# EAGLE library part EPF10K40-P240 (library altera)
EPF10K40 FLEX 10K family
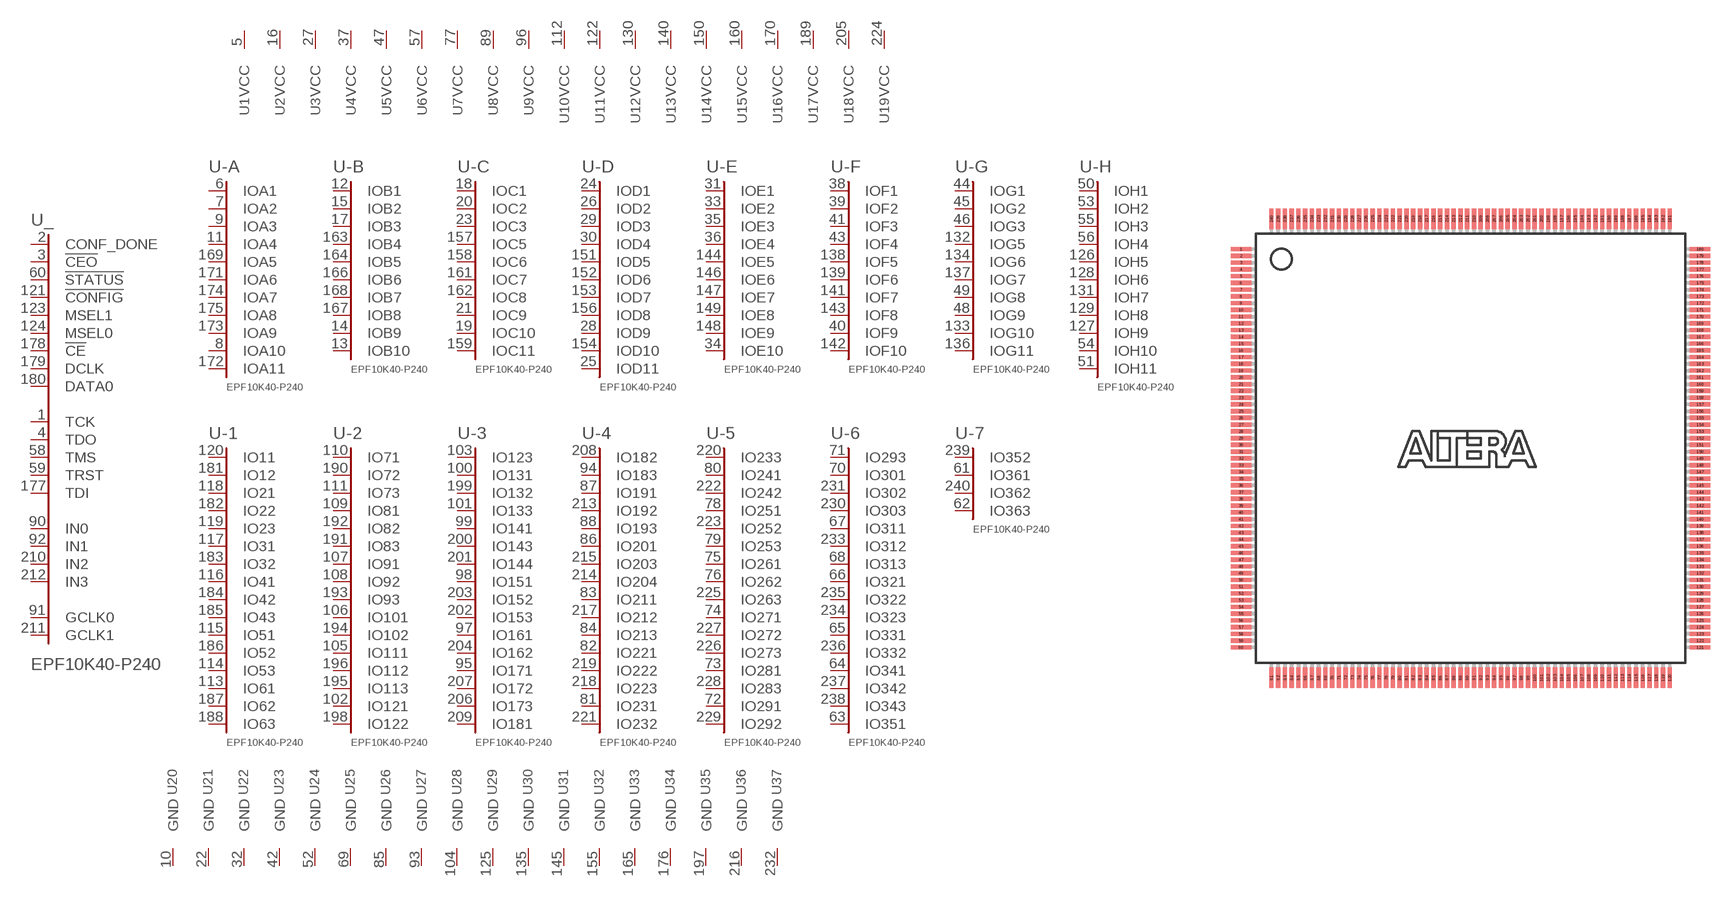
[diagram p44: symbol with the pads of PQFP240; footprint PQFP240]

Designator prefix U; gates _=100R240C -A=A11 -B=B10 -C=C11_4 -D=D11 -E=E10 -F=F10 -G=G11 -H=H11 -1=63-40 -2=122-40 -3=181-40 -4=232-40 -5=292-40 -6=351-40 -7=363-40 1=VCCINT 2=VCCINT 3=VCCINT 4=VCCINT 5=VCCINT 6=VCCINT 7=VCCINT 8=VCCINT 9=VCCINT 10=VCCINT 11=VCCINT 12=VCCINT 13=VCCINT 14=VCCINT 15=VCCINT 16=VCCINT 17=VCCINT 18=VCCINT 19=VCCINT 20=GNDINT 21=GNDINT 22=GNDINT 23=GNDINT 24=GNDINT 25=GNDINT 26=GNDINT 27=GNDINT 28=GNDINT 29=GNDINT 30=GNDINT 31=GNDINT 32=GNDINT 33=GNDINT 34=GNDINT 35=GNDINT 36=GNDINT 37=GNDINT

## EPF10K40-P240  [PQFP240]
1  _:TCK
2  _:CONF_DONE  in
3  _:!CEO!  in
4  _:TDO
5  1:VCC  pwr
6  -A:IOA1
7  -A:IOA2
8  -A:IOA10
9  -A:IOA3
10  20:GND  pwr
11  -A:IOA4
12  -B:IOB1
13  -B:IOB10
14  -B:IOB9
15  -B:IOB2
16  2:VCC  pwr
17  -B:IOB3
18  -C:IOC1
19  -C:IOC10
20  -C:IOC2
21  -C:IOC9
22  21:GND  pwr
23  -C:IOC3
24  -D:IOD1
25  -D:IOD11
26  -D:IOD2
27  3:VCC  pwr
28  -D:IOD9
29  -D:IOD3
30  -D:IOD4
31  -E:IOE1
32  22:GND  pwr
33  -E:IOE2
34  -E:IOE10
35  -E:IOE3
36  -E:IOE4
37  4:VCC  pwr
38  -F:IOF1
39  -F:IOF2
40  -F:IOF9
41  -F:IOF3
42  23:GND  pwr
43  -F:IOF4
44  -G:IOG1
45  -G:IOG2
46  -G:IOG3
47  5:VCC  pwr
48  -G:IOG9
49  -G:IOG8
50  -H:IOH1
51  -H:IOH11
52  24:GND  pwr
53  -H:IOH2
54  -H:IOH10
55  -H:IOH3
56  -H:IOH4
57  6:VCC  pwr
58  _:TMS
59  _:TRST
60  _:!STATUS!  in
61  -7:IO361
62  -7:IO363
63  -6:IO351
64  -6:IO341
65  -6:IO331
66  -6:IO321
67  -6:IO311
68  -6:IO313
69  25:GND  pwr
70  -6:IO301
71  -6:IO293
72  -5:IO291
73  -5:IO281
74  -5:IO271
75  -5:IO261
76  -5:IO262
77  7:VCC  pwr
78  -5:IO251
79  -5:IO253
80  -5:IO241
81  -4:IO231
82  -4:IO221
83  -4:IO211
84  -4:IO213
85  26:GND  pwr
86  -4:IO201
87  -4:IO191
88  -4:IO193
89  8:VCC  pwr
90  _:IN0  in
91  _:GCLK0  in
92  _:IN1  in
93  27:GND  pwr
94  -4:IO183
95  -3:IO171
96  9:VCC  pwr
97  -3:IO161
98  -3:IO151
99  -3:IO141
100  -3:IO131
101  -3:IO133
102  -2:IO121
103  -3:IO123
104  28:GND  pwr
105  -2:IO111
106  -2:IO101
107  -2:IO91
108  -2:IO92
109  -2:IO81
110  -2:IO71
111  -2:IO73
112  10:VCC  pwr
113  -1:IO61
114  -1:IO53
115  -1:IO51
116  -1:IO41
117  -1:IO31
118  -1:IO21
119  -1:IO23
120  -1:IO11
121  _:!CONFIG!  in
122  11:VCC  pwr
123  _:MSEL1  in
124  _:MSEL0  in
125  29:GND  pwr
126  -H:IOH5
127  -H:IOH9
128  -H:IOH6
129  -H:IOH8
130  12:VCC  pwr
131  -H:IOH7
132  -G:IOG5
133  -G:IOG10
134  -G:IOG6
135  30:GND  pwr
136  -G:IOG11
137  -G:IOG7
138  -F:IOF5
139  -F:IOF6
140  13:VCC  pwr
141  -F:IOF7
142  -F:IOF10
143  -F:IOF8
144  -E:IOE5
145  31:GND  pwr
146  -E:IOE6
147  -E:IOE7
148  -E:IOE9
149  -E:IOE8
150  14:VCC  pwr
151  -D:IOD5
152  -D:IOD6
153  -D:IOD7
154  -D:IOD10
155  32:GND  pwr
156  -D:IOD8
157  -C:IOC5
158  -C:IOC6
159  -C:IOC11
160  15:VCC  pwr
161  -C:IOC7
162  -C:IOC8
163  -B:IOB4
164  -B:IOB5
165  33:GND  pwr
166  -B:IOB6
167  -B:IOB8
168  -B:IOB7
169  -A:IOA5
170  16:VCC  pwr
171  -A:IOA6
172  -A:IOA11
173  -A:IOA9
174  -A:IOA7
175  -A:IOA8
176  34:GND  pwr
177  _:TDI
178  _:!CE!  in
179  _:DCLK  in
180  _:DATA0  in
181  -1:IO12
182  -1:IO22
183  -1:IO32
184  -1:IO42
185  -1:IO43
186  -1:IO52
187  -1:IO62
188  -1:IO63
189  17:VCC  pwr
190  -2:IO72
191  -2:IO83
192  -2:IO82
193  -2:IO93
194  -2:IO102
195  -2:IO113
196  -2:IO112
197  35:GND  pwr
198  -2:IO122
199  -3:IO132
200  -3:IO143
201  -3:IO144
202  -3:IO153
203  -3:IO152
204  -3:IO162
205  18:VCC  pwr
206  -3:IO173
207  -3:IO172
208  -4:IO182
209  -3:IO181
210  _:IN2  in
211  _:GCLK1  in
212  _:IN3  in
213  -4:IO192
214  -4:IO204
215  -4:IO203
216  36:GND  pwr
217  -4:IO212
218  -4:IO223
219  -4:IO222
220  -5:IO233
221  -4:IO232
222  -5:IO242
223  -5:IO252
224  19:VCC  pwr
225  -5:IO263
226  -5:IO273
227  -5:IO272
228  -5:IO283
229  -5:IO292
230  -6:IO303
231  -6:IO302
232  37:GND  pwr
233  -6:IO312
234  -6:IO323
235  -6:IO322
236  -6:IO332
237  -6:IO342
238  -6:IO343
239  -7:IO352
240  -7:IO362

## Footprint PQFP240 (pad centres in mm)
Plastic Quad Flat Pack
smd 1.5 x 0.32: 1 -17,14.75; 2 -17,14.25; 3 -17,13.75; 4 -17,13.25; 5 -17,12.75; 6 -17,12.25; 7 -17,11.75; 8 -17,11.25; 9 -17,10.75; 10 -17,10.25; 11 -17,9.75; 12 -17,9.25; 13 -17,8.75; 14 -17,8.25; 15 -17,7.75; 16 -17,7.25; 17 -17,6.75; 18 -17,6.25; 19 -17,5.75; 20 -17,5.25; 21 -17,4.75; 22 -17,4.25; 23 -17,3.75; 24 -17,3.25; 25 -17,2.75; 26 -17,2.25; 27 -17,1.75; 28 -17,1.25; 29 -17,0.75; 30 -17,0.25; 31 -17,-0.25; 32 -17,-0.75; 33 -17,-1.25; 34 -17,-1.75; 35 -17,-2.25; 36 -17,-2.75; 37 -17,-3.25; 38 -17,-3.75; 39 -17,-4.25; 40 -17,-4.75; 41 -17,-5.25; 42 -17,-5.75; 43 -17,-6.25; 44 -17,-6.75; 45 -17,-7.25; 46 -17,-7.75; 47 -17,-8.25; 48 -17,-8.75; 49 -17,-9.25; 50 -17,-9.75; 51 -17,-10.25; 52 -17,-10.75; 53 -17,-11.25; 54 -17,-11.75; 55 -17,-12.25; 56 -17,-12.75; 57 -17,-13.25; 58 -17,-13.75; 59 -17,-14.25; 60 -17,-14.75; 121 17,-14.75; 122 17,-14.25; 123 17,-13.75; 124 17,-13.25; 125 17,-12.75; 126 17,-12.25; 127 17,-11.75; 128 17,-11.25; 129 17,-10.75; 130 17,-10.25; 131 17,-9.75; 132 17,-9.25; 133 17,-8.75; 134 17,-8.25; 135 17,-7.75; 136 17,-7.25; 137 17,-6.75; 138 17,-6.25; 139 17,-5.75; 140 17,-5.25; 141 17,-4.75; 142 17,-4.25; 143 17,-3.75; 144 17,-3.25; 145 17,-2.75; 146 17,-2.25; 147 17,-1.75; 148 17,-1.25; 149 17,-0.75; 150 17,-0.25; 151 17,0.25; 152 17,0.75; 153 17,1.25; 154 17,1.75; 155 17,2.25; 156 17,2.75; 157 17,3.25; 158 17,3.75; 159 17,4.25; 160 17,4.75; 161 17,5.25; 162 17,5.75; 163 17,6.25; 164 17,6.75; 165 17,7.25; 166 17,7.75; 167 17,8.25; 168 17,8.75; 169 17,9.25; 170 17,9.75; 171 17,10.25; 172 17,10.75; 173 17,11.25; 174 17,11.75; 175 17,12.25; 176 17,12.75; 177 17,13.25; 178 17,13.75; 179 17,14.25; 180 17,14.75
smd 0.32 x 1.5: 61 -14.75,-17; 62 -14.25,-17; 63 -13.75,-17; 64 -13.25,-17; 65 -12.75,-17; 66 -12.25,-17; 67 -11.75,-17; 68 -11.25,-17; 69 -10.75,-17; 70 -10.25,-17; 71 -9.75,-17; 72 -9.25,-17; 73 -8.75,-17; 74 -8.25,-17; 75 -7.75,-17; 76 -7.25,-17; 77 -6.75,-17; 78 -6.25,-17; 79 -5.75,-17; 80 -5.25,-17; 81 -4.75,-17; 82 -4.25,-17; 83 -3.75,-17; 84 -3.25,-17; 85 -2.75,-17; 86 -2.25,-17; 87 -1.75,-17; 88 -1.25,-17; 89 -0.75,-17; 90 -0.25,-17; 91 0.25,-17; 92 0.75,-17; 93 1.25,-17; 94 1.75,-17; 95 2.25,-17; 96 2.75,-17; 97 3.25,-17; 98 3.75,-17; 99 4.25,-17; 100 4.75,-17; 101 5.25,-17; 102 5.75,-17; 103 6.25,-17; 104 6.75,-17; 105 7.25,-17; 106 7.75,-17; 107 8.25,-17; 108 8.75,-17; 109 9.25,-17; 110 9.75,-17; 111 10.25,-17; 112 10.75,-17; 113 11.25,-17; 114 11.75,-17; 115 12.25,-17; 116 12.75,-17; 117 13.25,-17; 118 13.75,-17; 119 14.25,-17; 120 14.75,-17; 181 14.75,17; 182 14.25,17; 183 13.75,17; 184 13.25,17; 185 12.75,17; 186 12.25,17; 187 11.75,17; 188 11.25,17; 189 10.75,17; 190 10.25,17; 191 9.75,17; 192 9.25,17; 193 8.75,17; 194 8.25,17; 195 7.75,17; 196 7.25,17; 197 6.75,17; 198 6.25,17; 199 5.75,17; 200 5.25,17; 201 4.75,17; 202 4.25,17; 203 3.75,17; 204 3.25,17; 205 2.75,17; 206 2.25,17; 207 1.75,17; 208 1.25,17; 209 0.75,17; 210 0.25,17; 211 -0.25,17; 212 -0.75,17; 213 -1.25,17; 214 -1.75,17; 215 -2.25,17; 216 -2.75,17; 217 -3.25,17; 218 -3.75,17; 219 -4.25,17; 220 -4.75,17; 221 -5.25,17; 222 -5.75,17; 223 -6.25,17; 224 -6.75,17; 225 -7.25,17; 226 -7.75,17; 227 -8.25,17; 228 -8.75,17; 229 -9.25,17; 230 -9.75,17; 231 -10.25,17; 232 -10.75,17; 233 -11.25,17; 234 -11.75,17; 235 -12.25,17; 236 -12.75,17; 237 -13.25,17; 238 -13.75,17; 239 -14.25,17; 240 -14.75,17